# Altium footprint library TSOP4838.PcbLib: 2 footprints
Each footprint in its own frame and in the unit in brackets; x right, y up, seen from the top. Pads: shape width x height; smd on the part's side, far side on the other; paste and mask are expansions set on the pad; w line width, h text height; cw(c..) or ccw(c..) is an arc to the next point about the centre after c.
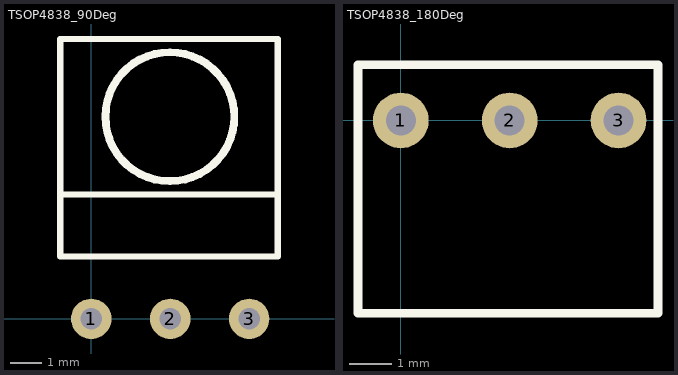
[diagram p0: the footprints below, top view; thin cyan lines are the x and y axes]

## TSOP4838_90Deg [mm]
pads (3):
  round 1.3 hole 0.7 mask+0.05: 1(0,0) 2(2.54,0) 3(5.08,0)
Top Overlay:
  circle w0.254: c2.526,6.5 r2.074
  lines w0.2: -1,4 5.9,4 ; -1,2 -1,9 6,9 6,2 -1,2

## TSOP4838_180Deg [mm]
pads (3):
  round 1.3 hole 0.7 mask+0.05: 1(0,0) 2(2.54,0) 3(5.08,0)
Top Overlay:
  lines w0.2: -1,-4.5 -1,0 -1,1.3 6,1.3 6,-4.5 -1,-4.5